# EAGLE library part ADM258 (library ArdDisp)
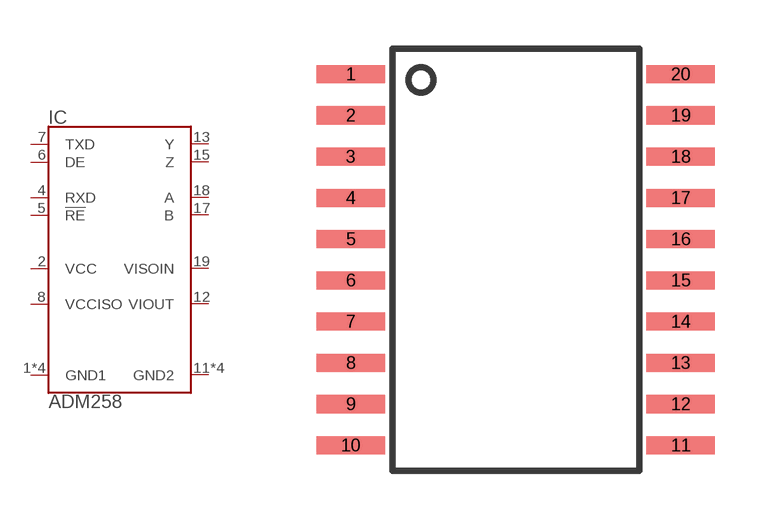
[diagram p4: symbol with the pads of SO20W; footprint SO20W]

Designator prefix IC

## ADM2587EBRWZ  [SO20W]
1  GND1  in
2  VCC  in
3  GND1  in
4  RXD  out
5  !RE  in
6  DE  in
7  TXD  in
8  VCCISO  in
9  GND1  in
10  GND1  in
11  GND2  in
12  VIOUT  in
13  Y  out
14  GND2  in
15  Z  out
16  GND2  in
17  B  in
18  A  in
19  VISOIN  in
20  GND2  in

## Footprint SO20W (pad centres in mm)
Pady jsou v mil/12.5
smd 2.108 x 0.559: 1 -5.08,5.715; 2 -5.08,4.445; 3 -5.08,3.175; 4 -5.08,1.905; 5 -5.08,0.635; 6 -5.08,-0.635; 7 -5.08,-1.905; 8 -5.08,-3.175; 9 -5.08,-4.445; 10 -5.08,-5.715; 11 5.08,-5.715; 12 5.08,-4.445; 13 5.08,-3.175; 14 5.08,-1.905; 15 5.08,-0.635; 16 5.08,0.635; 17 5.08,1.905; 18 5.08,3.175; 19 5.08,4.445; 20 5.08,5.715